# EAGLE library part FAN7888MX (library mylib)
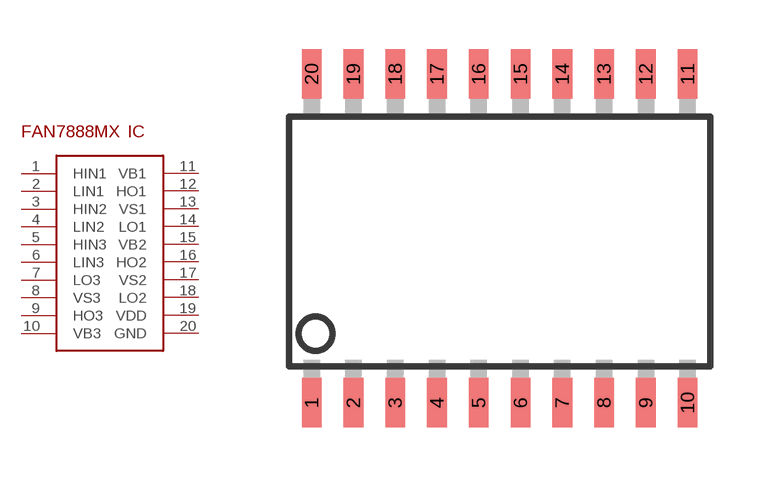
[diagram p0: symbol with the pads of SOIC20S; footprint SOIC20S]

Designator prefix IC

## FAN7888MX  [SOIC20S]
1  HIN1
2  LIN1
3  HIN2
4  LIN2
5  HIN3
6  LIN3
7  LO3
8  VS3
9  HO3
10  VB3
11  VB1
12  HO1
13  VS1
14  LO1
15  VB2
16  HO2
17  VS2
18  LO2
19  VDD  pwr
20  GND  pwr

## Footprint SOIC20S (pad centres in mm)
Wide Plastic Gull Wing Small Outline Package
smd 0.6 x 1.5: 1 -5.715,-5; 2 -4.445,-5; 3 -3.175,-5; 4 -1.905,-5; 5 -0.635,-5; 6 0.635,-5; 7 1.905,-5; 8 3.175,-5; 9 4.445,-5; 10 5.715,-5; 11 5.715,5; 12 4.445,5; 13 3.175,5; 14 1.905,5; 15 0.635,5; 16 -0.635,5; 17 -1.905,5; 18 -3.175,5; 19 -4.445,5; 20 -5.715,5